# Altium footprint library lib_pomona.PcbLib: 2 footprints
Each footprint in its own frame and in the unit in brackets; x right, y up, seen from the top. Pads: shape width x height; smd on the part's side, far side on the other; paste and mask are expansions set on the pad; w line width, h text height; cw(c..) or ccw(c..) is an arc to the next point about the centre after c.
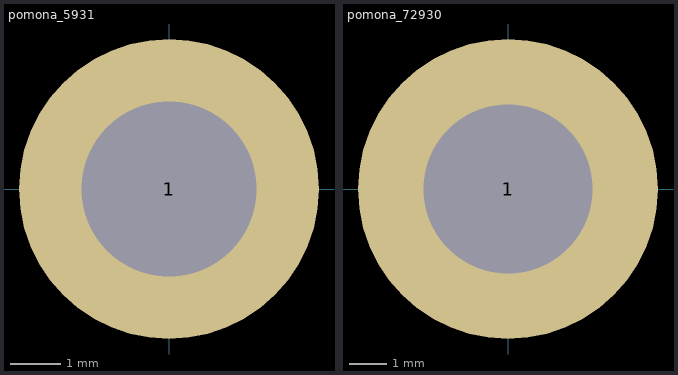
[diagram p0: the footprints below, top view; thin cyan lines are the x and y axes]

## pomona_5931 [mm]
pads (1):
  round 6 hole 3.5: 1(0,0)
3D body "pomona_5931.step": height 22.79, standoff -3.63, extent -7.24,-7.238 7.24,7.24

## pomona_72930 [mm]
pads (1):
  round 8 hole 4.5: 1(0,0)
3D body "pomona_72930.step": height 22.79, standoff -8.54, extent -7.24,-7.238 7.24,7.24